# EAGLE library part B11P-VH (library con-JST VH)
JST VH Series header 3.96mm pitch disconnectable crimp style connectors, vertical (side entry type), 11 pins
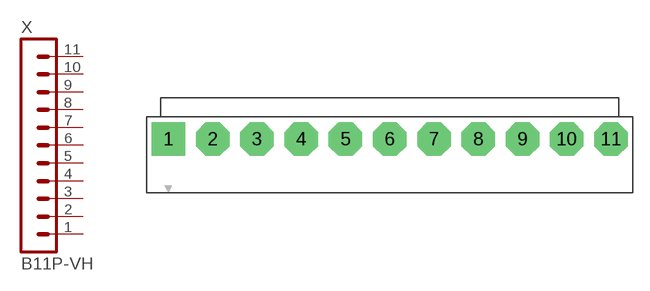
[diagram p5: symbol with the pads of B11P-VH-B; footprint B11P-VH-B]

Designator prefix X

## B11P-VH-B  [B11P-VH-B]
1  1  pas
2  2  pas
3  3  pas
4  4  pas
5  5  pas
6  6  pas
7  7  pas
8  8  pas
9  9  pas
10  10  pas
11  11  pas

## Footprint B11P-VH-B (pad centres in mm)
JST VH Series header 3.96mm pitch disconnectable crimp style connectors, vertical (top entry type), 11 pins
drill 1.7 pad 3 square: 1 -19.8,0
drill 1.7 pad 3 octagon: 2 -15.84,0; 3 -11.88,0; 4 -7.92,0; 5 -3.96,0; 6 0,0; 7 3.96,0; 8 7.92,0; 9 11.88,0; 10 15.84,0; 11 19.8,0